# Altium footprint library apollo.PcbLib: 245 footprints (part 10 of 16)
Each footprint in its own frame and in the unit in brackets; x right, y up, seen from the top. Pads: shape width x height; smd on the part's side, far side on the other; paste and mask are expansions set on the pad; w line width, h text height; cw(c..) or ccw(c..) is an arc to the next point about the centre after c.
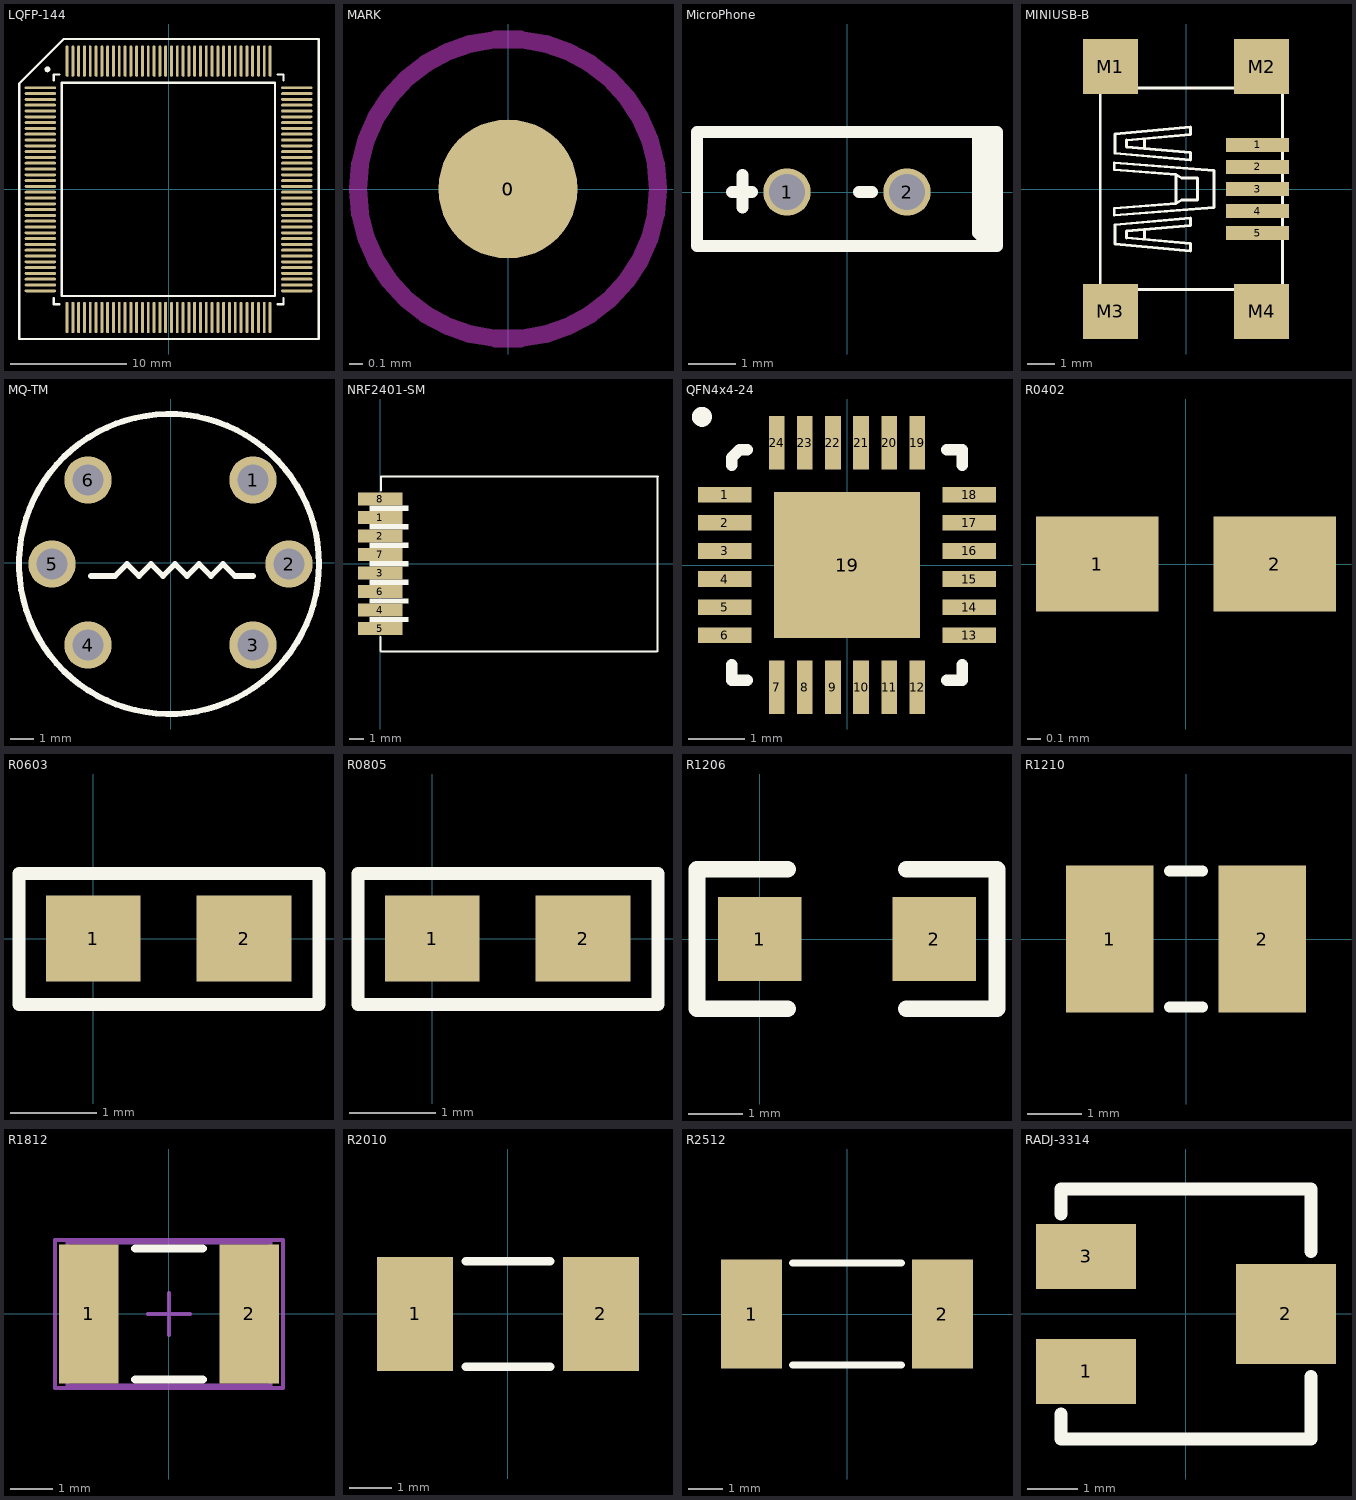
[diagram p9: the footprints below, top view; thin cyan lines are the x and y axes]

## LQFP-144 [mm] "LQFP， 144pin"
pads (144):
  oval 2.7x0.254 smd: 1(-11.05,8.75) 2(-11.05,8.25) 3(-11.05,7.75) 4(-11.05,7.25) 5(-11.05,6.75) 6(-11.05,6.25) 7(-11.05,5.75) 8(-11.05,5.25) 9(-11.05,4.75) 10(-11.05,4.25) 11(-11.05,3.75) 12(-11.05,3.25) 13(-11.05,2.75) 14(-11.05,2.25) 15(-11.05,1.75) 16(-11.05,1.25) 17(-11.05,0.75) 18(-11.05,0.25) 19(-11.05,-0.25) 20(-11.05,-0.75) 21(-11.05,-1.25) 22(-11.05,-1.75) 23(-11.05,-2.25) 24(-11.05,-2.75) 25(-11.05,-3.25) 26(-11.05,-3.75) 27(-11.05,-4.25) 28(-11.05,-4.75) 29(-11.05,-5.25) 30(-11.05,-5.75) 31(-11.05,-6.25) 32(-11.05,-6.75) 33(-11.05,-7.25) 34(-11.05,-7.75) 35(-11.05,-8.25) 36(-11.05,-8.75) 73(11.05,-8.75) 74(11.05,-8.25) 75(11.05,-7.75) 76(11.05,-7.25) 77(11.05,-6.75) 78(11.05,-6.25) 79(11.05,-5.75) 80(11.05,-5.25) 81(11.05,-4.75) 82(11.05,-4.25) 83(11.05,-3.75) 84(11.05,-3.25) 85(11.05,-2.75) 86(11.05,-2.25) 87(11.05,-1.75) 88(11.05,-1.25) 89(11.05,-0.75) 90(11.05,-0.25) 91(11.05,0.25) 92(11.05,0.75) 93(11.05,1.25) 94(11.05,1.75) 95(11.05,2.25) 96(11.05,2.75) 97(11.05,3.25) 98(11.05,3.75) 99(11.05,4.25) 100(11.05,4.75) 101(11.05,5.25) 102(11.05,5.75) 103(11.05,6.25) 104(11.05,6.75) 105(11.05,7.25) 106(11.05,7.75) 107(11.05,8.25) 108(11.05,8.75)
  oval 0.254x2.7 smd: 37(-8.75,-11.05) 38(-8.25,-11.05) 39(-7.75,-11.05) 40(-7.25,-11.05) 41(-6.75,-11.05) 42(-6.25,-11.05) 43(-5.75,-11.05) 44(-5.25,-11.05) 45(-4.75,-11.05) 46(-4.25,-11.05) 47(-3.75,-11.05) 48(-3.25,-11.05) 49(-2.75,-11.05) 50(-2.25,-11.05) 51(-1.75,-11.05) 52(-1.25,-11.05) 53(-0.75,-11.05) 54(-0.25,-11.05) 55(0.25,-11.05) 56(0.75,-11.05) 57(1.25,-11.05) 58(1.75,-11.05) 59(2.25,-11.05) 60(2.75,-11.05) 61(3.25,-11.05) 62(3.75,-11.05) 63(4.25,-11.05) 64(4.75,-11.05) 65(5.25,-11.05) 66(5.75,-11.05) 67(6.25,-11.05) 68(6.75,-11.05) 69(7.25,-11.05) 70(7.75,-11.05) 71(8.25,-11.05) 72(8.75,-11.05) 109(8.75,11.05) 110(8.25,11.05) 111(7.75,11.05) 112(7.25,11.05) 113(6.75,11.05) 114(6.25,11.05) 115(5.75,11.05) 116(5.25,11.05) 117(4.75,11.05) 118(4.25,11.05) 119(3.75,11.05) 120(3.25,11.05) 121(2.75,11.05) 122(2.25,11.05) 123(1.75,11.05) 124(1.25,11.05) 125(0.75,11.05) 126(0.25,11.05) 127(-0.25,11.05) 128(-0.75,11.05) 129(-1.25,11.05) 130(-1.75,11.05) 131(-2.25,11.05) 132(-2.75,11.05) 133(-3.25,11.05) 134(-3.75,11.05) 135(-4.25,11.05) 136(-4.75,11.05) 137(-5.25,11.05) 138(-5.75,11.05) 139(-6.25,11.05) 140(-6.75,11.05) 141(-7.25,11.05) 142(-7.75,11.05) 143(-8.25,11.05) 144(-8.75,11.05)
Top Overlay:
  circle w0.25: c-10.437,10.338 r0.125
  lines w0.2: -12.878,-12.903 12.929,-12.903 ; -12.878,-12.802 -12.878,9.119 -9.042,12.954 12.954,12.954 12.954,-12.903 ; -9.9,-9.4 -9.9,-9.9 -9.4,-9.9 ; -9.9,9.4 -9.9,9.9 -9.4,9.9 ; 9.4,-9.9 9.9,-9.9 9.9,-9.4 ; 9.4,9.9 9.9,9.9 9.9,9.4 ; -9.195,-9.195 9.169,-9.195 9.169,9.195 -9.195,9.195 -9.195,-9.195

## MARK [mm] "mark point"
pads (2):
  round 1 smd: 0(0,0)
  round 2 on Top Solder: 0(0,0)
Top Layer keep-out:
  circle w0.127: c0,0 r1.078

## MicroPhone [mm] "麦克风咪头"
pads (2):
  round 1 hole 0.762: 1(-1.27,0) 2(1.27,0)
Top Overlay:
  lines w0.254: -2.438,0 -2.007,0 ; -2.21,-0.33 -2.21,0.356 ; 0.254,0 0.533,0 ; 2.769,1.245 2.769,-0.864 2.972,-1.067 2.972,1.143 ; -3.175,-1.143 -3.175,1.27 3.175,1.27 3.175,-1.143 -3.175,-1.143

## MINIUSB-B [mm]
pads (9):
  rect 2.3x0.5 smd: 1(2.6,1.6) 2(2.6,0.8) 3(2.6,0) 4(2.6,-0.8) 5(2.6,-1.6)
  rect 2x2 all layers, no hole: M1(-2.75,4.45) M2(2.75,4.45) M3(-2.75,-4.45) M4(2.75,-4.45)
Top Overlay:
  lines w0.102: -2.159,-1.55 -2.159,-1.775 0.166,-1.975 0.166,-2.25 -2.584,-2 -2.584,-1.3 0.166,-1.05 0.166,-1.325 -2.159,-1.525 ; -2.159,1.525 0.166,1.325 0.166,1.05 -2.584,1.3 -2.584,2 0.166,2.25 0.166,1.975 -2.159,1.775 -2.159,1.55 ; -1.509,-1.8 -1.509,-1.525 ; -1.509,1.525 -1.509,1.8 ; -0.359,-0.525 -0.359,0 -0.359,0.525 ; -0.359,-0.525 -0.159,-0.4 0.416,-0.4 0.416,0 0.416,0.4 -0.159,0.4 -0.359,0.525 ; -0.359,-0.525 -2.609,-0.7 -2.609,-0.95 1.016,-0.675 1.016,0 1.016,0.675 -2.609,0.95 -2.609,0.7 -0.359,0.525 ; -3.115,-3.65 3.509,-3.65 3.509,3.675 -3.09,3.675 -3.115,3.7 -3.115,-3.65
3D body: height 4.21, standoff -1.64, extent -3.135,-3.925 3.565,3.775

## MQ-TM [mm] "Throu mount MQ-x serial gass sensor"
pads (6):
  round 2 hole 1.3: 1(3.492,3.492) 2(5.016,-0.064) 3(3.492,-3.492) 4(-3.492,-3.492) 5(-5.016,-0.064) 6(-3.492,3.492)
Top Overlay:
  circle w0.254: c-0.064,-0.064 r6.35
  lines w0.254: -3.365,-0.572 -2.349,-0.572 -1.841,-0.064 -1.333,-0.572 -0.826,-0.064 -0.318,-0.572 0.191,-0.064 0.699,-0.572 1.206,-0.064 1.714,-0.572 2.222,-0.064 2.73,-0.572 3.492,-0.572

## NRF2401-SM [mm] "NRF2401 贴片"
pads (8):
  rect 3.048x0.9 smd: 1(0,3.171) 2(0,1.903) 3(0,-0.634) 4(0,-3.171) 5(0,-4.44) 6(0,-1.903) 7(0,0.634) 8(0,4.44)
Top Overlay:
  region: 1.925,-3.98 1.925,-3.63 -0.745,-3.63 -0.745,-3.98
  region: 1.925,-2.71 1.925,-2.36 -0.745,-2.36 -0.745,-2.71
  region: 1.925,-1.44 1.925,-1.09 -0.745,-1.09 -0.745,-1.44
  region: 1.925,-0.17 1.925,0.18 -0.745,0.18 -0.745,-0.17
  region: 1.925,1.1 1.925,1.45 -0.745,1.45 -0.745,1.1
  region: 1.925,2.37 1.925,2.72 -0.745,2.72 -0.745,2.37
  region: 1.925,3.64 1.925,3.99 -0.745,3.99 -0.745,3.64
  lines w0.127: 0.025,-5.009 0.025,-5.98 0.055,-6.01 18.995,-6.01 19.025,-5.98 19.025,5.96 19.055,5.99 0.055,5.99 0.055,5.024

## QFN4x4-24 [mm] "QFN24封装 4mmX4mm"
height 0.8
pads (25):
  rect 0.95x0.279 smd: 1(-2.175,1.25) 2(-2.175,0.75) 3(-2.175,0.25) 4(-2.175,-0.25) 5(-2.175,-0.75) 6(-2.175,-1.25) 13(2.175,-1.25) 14(2.175,-0.75) 15(2.175,-0.25) 16(2.175,0.25) 17(2.175,0.75) 18(2.175,1.25)
  rect 0.279x0.95 smd: 7(-1.25,-2.175) 8(-0.75,-2.175) 9(-0.25,-2.175) 10(0.25,-2.175) 11(0.75,-2.175) 12(1.25,-2.175) 19(1.25,2.175) 20(0.75,2.175) 21(0.25,2.175) 22(-0.25,2.175) 23(-0.75,2.175) 24(-1.25,2.175)
  rect 2.6x2.6 smd: 19(0,0)
Top Overlay:
  circle w0.254: c-2.58,2.636 r0.05
  lines w0.2: -2.05,-1.775 -2.05,-2.05 -1.775,-2.05 ; -2.05,1.775 -2.05,1.913 -1.913,2.05 -1.775,2.05 ; 1.775,-2.05 2.05,-2.05 2.05,-1.775 ; 1.775,2.05 2.05,2.05 2.05,1.775
3D body: height 0.89, standoff 0, extent -2.022,-2.063 2.042,2.001

## R0402 [mm] "Chip Resistor; Body 1.1 x 0.5 mm (LxW typ)"
height 0.4
pads (2):
  rect 0.9x0.7 smd: 1(-0.65,0) 2(0.65,0)

## R0603 [mm] "Resistor 0603"
height 2.032
pads (2):
  rect 1.1x1 smd: 1(-0.003,0.005) 2(1.747,0.005)
Top Overlay:
  lines w0.15: -0.864,-0.762 -0.864,0.762 2.616,0.762 2.616,-0.762 -0.864,-0.762

## R0805 [mm] "Resistor 0805"
height 2.032
pads (2):
  rect 1.1x1 smd: 1(-0.003,0.005) 2(1.747,0.005)
Top Overlay:
  lines w0.15: -0.864,-0.762 -0.864,0.762 2.616,0.762 2.616,-0.762 -0.864,-0.762

## R1206 [mil] "Resistor 1206"
pads (2):
  rect 60x60 smd: 1(0,0) 2(125,0)
Top Overlay:
  lines w12: 20,-50 -45,-50 -45,50 20,50 ; 105,-50 170,-50 170,50 105,50

## R1210 [mm] "Chip Resistor; Body 3.2 x 2.5 mm (LxW typ)"
height 0.71
pads (2):
  rect 1.6x2.7 smd: 1(-1.4,0) 2(1.4,0)
Top Overlay:
  lines w0.2: -0.3,-1.25 0.3,-1.25 ; -0.3,1.25 0.3,1.25

## R1812 [mm] "Resistor, Body 4.5x3.2mm"
height 1.04
pads (2):
  rect 1.4x3.3 smd: 1(-1.9,0) 2(1.9,0)
Top Overlay:
  lines w0.2: -0.8,-1.55 0.8,-1.55 ; -0.8,1.55 0.8,1.55
Mechanical 13:
  lines w0.1: -2.4,-1.7 2.4,-1.7 2.4,1.7 -2.4,1.7 -2.4,-1.7
Mechanical 15:
  lines w0.1: -0.5,0 0.5,0 ; 0,-0.5 0,0.5 ; -2.7,-1.75 2.7,-1.75 2.7,1.75 -2.7,1.75 -2.7,-1.75
3D body: height 1.4, standoff 0, extent -2.4,-1.7 2.4,1.7

## R2010 [mm] "Chip Resistor; Body 5.0 x 2.5 mm (LxW typ)"
height 0.71
pads (2):
  rect 1.8x2.7 smd: 1(-2.2,0) 2(2.2,0)
Top Overlay:
  lines w0.2: -1,-1.25 1,-1.25 ; -1,1.25 1,1.25

## R2512 [mm] "Chip Resistor; Body 6.3 x 3.2 mm (LxW typ)"
height 0.71
pads (2):
  rect 1.8x3.2 smd: 1(-2.8,0) 2(2.8,0)
Top Overlay:
  lines w0.2: -1.6,-1.5 1.6,-1.5 ; -1.6,1.5 1.6,1.5

## RADJ-3314 [mm] "3314贴片电位器"
pads (3):
  rect 2x1.3 smd: 1(-2,-1.15) 3(-2,1.15)
  rect 2x2 smd: 2(2,0)
Top Overlay:
  lines w0.254: -2.5,-2 -2.5,-2.5 2.5,-2.5 2.5,-1.25 ; -2.5,2 -2.5,2.5 2.5,2.5 2.5,1.25